# EAGLE library part MC14023BCP (library User-Submitted)
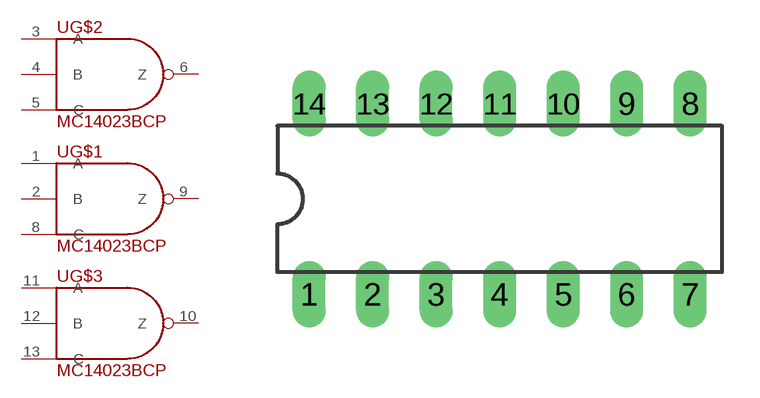
[diagram p29: symbol with the pads of DIL14; footprint DIL14]

Designator prefix -; gates G$1=MC14023B G$2=MC14023B G$3=MC14023B

## MC14023BCP  [DIL14]
1  G$1:A
2  G$1:B
3  G$2:A
4  G$2:B
5  G$2:C
6  G$2:Z
8  G$1:C
9  G$1:Z
10  G$3:Z
11  G$3:A
12  G$3:B
13  G$3:C

## Footprint DIL14 (pad centres in mm)
Dual In Line Package
drill 0.813 long: 1 -7.62,-3.81; 2 -5.08,-3.81; 3 -2.54,-3.81; 4 0,-3.81; 5 2.54,-3.81; 6 5.08,-3.81; 7 7.62,-3.81; 8 7.62,3.81; 9 5.08,3.81; 10 2.54,3.81; 11 0,3.81; 12 -2.54,3.81; 13 -5.08,3.81; 14 -7.62,3.81